# Altium schematic symbol library LEDs.SchLib: 2 symbols
Pins are listed as number, name and electrical type; pins without a type are passive.

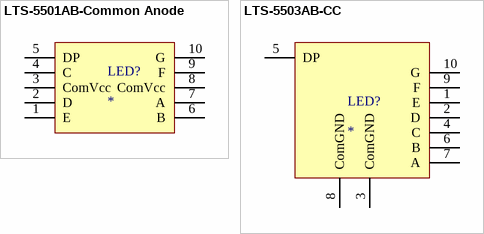
[diagram p0: symbols LTS-5501AB-Common Anode to LTS-5503AB-CC]

## LTS-5501AB-Common Anode
designator LED?
LED 7-SEG .56" 1DIGIT BLUE Common Anode; Digikey part Number: 160-1517-5-ND
footprint LTS-5501AB (LED 7-SEG .56" 1DIGIT CA)
pins: 1 E, 2 D, 3 ComVcc, 4 C, 5 DP, 6 B, 7 A, 8 ComVcc, 9 F, 10 G

## LTS-5503AB-CC
designator LED?
LED 7-SEG .56" 1DIGIT BLUE Common Cathode; Digikey part Number: 160-1518-5-ND
footprint LTS-5503AB Common Cathode (LED 7-SEG .56" 1DIGIT  Common Cathode)
pins: 1 E, 2 D, 3 ComGND, 4 C, 5 DP, 6 B, 7 A, 8 ComGND, 9 F, 10 G